# Altium schematic symbol library C14MC10B.SchLib: 1 symbol
Pins are listed as number, name and electrical type; pins without a type are passive.

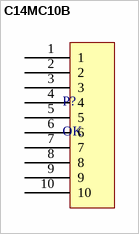
[diagram p0: symbol C14MC10B]

## C14MC10B
designator P?, comment OK
10 Pin Battery male connector
pins: 1, 2, 3, 4, 5, 6, 7, 8, 9, 10